# Altium schematic symbol library CC0805KKX7R7BB106.SchLib: 1 symbol
Pins are listed as number, name and electrical type; pins without a type are passive.

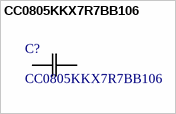
[diagram p0: symbol CC0805KKX7R7BB106]

## CC0805KKX7R7BB106
designator C?
No Description Available; Manufacturer_Name: Yageo; Copyright: Copyright (C) 2026 Ultra Librarian. All rights reserved.; Manufacturer_Part_Number: CC0805KKX7R7BB106
footprint CAP_CC0805_YAG
pins: 1, 2